# EAGLE library part ORG447X (library balto)
Origin ORG447x Fully integrated GPS Module
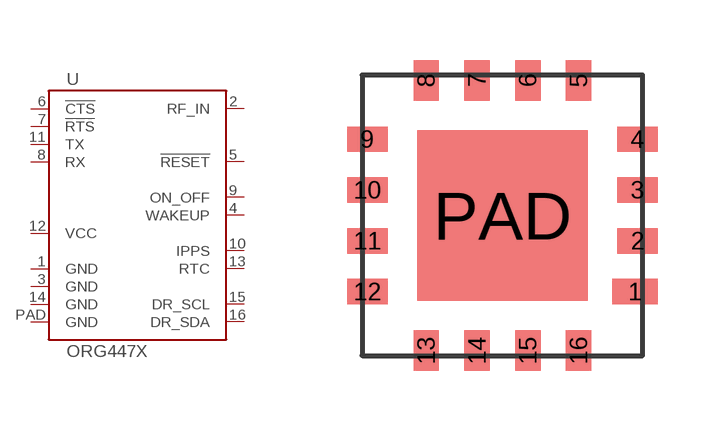
[diagram p39: symbol with the pads of ORG447X; footprint ORG447X]

Designator prefix U

## ORG447X  [ORG447X]
1  GND
2  RF_IN
3  GND
4  WAKEUP
5  !RESET
6  !CTS
7  !RTS
8  RX
9  ON_OFF
10  IPPS
11  TX
12  VCC
13  RTC
14  GND
15  DR_SCL
16  DR_SDA
PAD  GND

## Footprint ORG447X (pad centres in mm)
smd 1.143 x 0.635: 1 6.82,1.6
smd 1.016 x 0.635: 2 6.883,2.87; 3 6.883,4.14; 4 6.883,5.41; 9 0.127,5.41; 10 0.127,4.14; 11 0.127,2.87; 12 0.127,1.6
smd 0.635 x 1.016: 5 5.41,6.883; 6 4.14,6.883; 7 2.87,6.883; 8 1.6,6.883; 13 1.6,0.127; 14 2.87,0.127; 15 4.14,0.127; 16 5.41,0.127
smd 4.267 x 4.267: PAD 3.505,3.505